# EAGLE library part GD25Q127C (library added_parts)
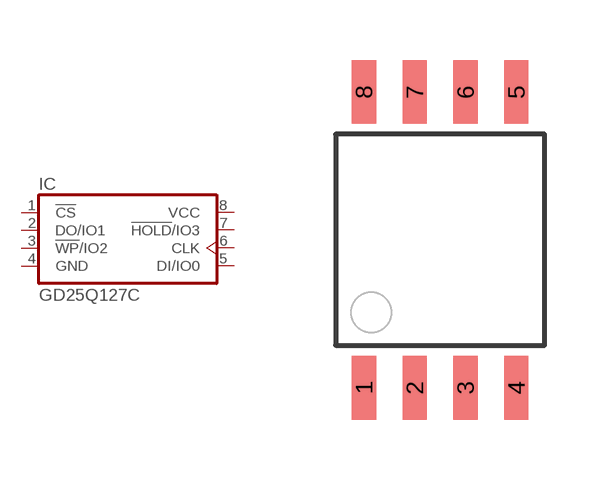
[diagram p2: symbol with the pads of SOP-8_208MIL; footprint SOP-8_208MIL]

Designator prefix IC

## GD25Q127C  [SOP-8_208MIL]
1  !CS!  in
2  DO/IO1  out
3  !WP!/IO2  in
4  GND  pwr
5  DI/IO0  in
6  CLK  in
7  !HOLD!/IO3  in
8  VCC  pwr

## Footprint SOP-8_208MIL (pad centres in mm)
smd 0.61 x 1.6: 1 -1.905,-3.7; 2 -0.635,-3.7; 3 0.635,-3.7; 4 1.905,-3.7; 5 1.905,3.7; 6 0.635,3.7; 7 -0.635,3.7; 8 -1.905,3.7